# Altium schematic symbol library Resistor.SchLib: 22 symbols
Pins are listed as number, name and electrical type; pins without a type are passive.

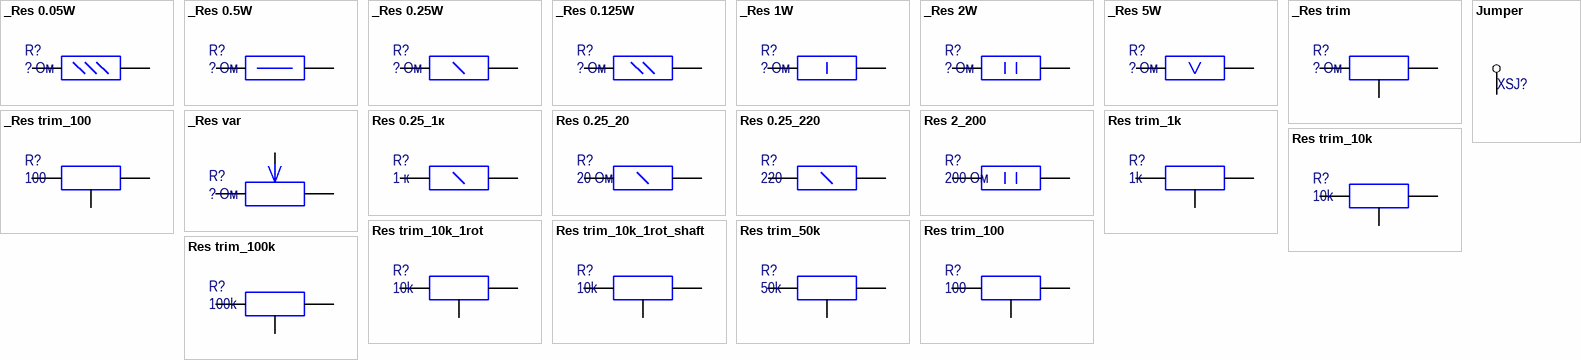
[diagram p0: symbols _Res 0.05W to Res trim_100k]

## _Res 0.05W
designator R?, comment ? Ом
Resistor with 0.05W max power; ManufacturerPartNumber: ?; ComponentLink1Description: Datasheet; Package: 0402; MF-0.05; ComponentLink2Description: Datasheet-local; ComponentLink2URL: *; Value: ? Ом
pins: 1, 2

## _Res 0.5W
designator R?, comment ? Ом
Resistor with 0.5W max power; ManufacturerPartNumber: ?; ComponentLink1Description: Datasheet; Package: 2010; MF-0.5; ComponentLink2Description: Datasheet-local; ComponentLink2URL: *; Value: ? Ом
pins: 1, 2

## _Res 0.25W
designator R?, comment ? Ом
Resistor with 0.25W max power; ManufacturerPartNumber: ?; ComponentLink1Description: Datasheet; Package: 1206; MF-0.25; ComponentLink2Description: Datasheet-local; ComponentLink2URL: *; Value: ? Ом
footprint RESC3216X07M (Chip Resistor, 2-Leads, Body 3,10x1,60mm, IPC Low Density)
pins: 1, 2

## _Res 0.125W
designator R?, comment ? Ом
Resistor with 0.125W max power; ManufacturerPartNumber: ?; ComponentLink1Description: Datasheet; Package: 0805; MF-0.125; ComponentLink2Description: Datasheet-local; ComponentLink2URL: *; Value: ? Ом
footprint RESC3216X07M (Chip Resistor, 2-Leads, Body 3,10x1,60mm, IPC Low Density)
pins: 1, 2

## _Res 1W
designator R?, comment ? Ом
Resistor with 1W max power; ManufacturerPartNumber: ?; ComponentLink1Description: Datasheet; Package: 2512; MF-1; ComponentLink2Description: Datasheet-local; ComponentLink2URL: *; Value: ? Ом
pins: 1, 2

## _Res 2W
designator R?, comment ? Ом
Resistor with 2W max power; ManufacturerPartNumber: ?; ComponentLink1Description: Datasheet; Package: MF-2; ComponentLink2Description: Datasheet-local; ComponentLink2URL: *; Value: ? Ом
pins: 1, 2

## _Res 5W
designator R?, comment ? Ом
Resistor with 5W max power; ManufacturerPartNumber: ?; ComponentLink1Description: Datasheet; ComponentLink2Description: Datasheet-local; ComponentLink2URL: *; Value: ? Ом
pins: 1, 2

## _Res trim
designator R?, comment ? Ом
Resistor trimming; ManufacturerPartNumber: ?; ComponentLink1Description: Datasheet; ComponentLink2Description: Datasheet-local; ComponentLink2URL: *; Value: ? Ом
pins: 1, 2, 3

## _Res trim_100
designator R?, comment 100
Resistor trimming; ManufacturerPartNumber: TSR 3006P-101; Manufacturer: Suntan Tecnology Company Limited; ComponentLink1Description: Datasheet; ComponentLink1URL: http://www.suntan.com.hk/pdf/Trimming-Potentiometers/TSR-3006.pdf; Price: 15,66; Package: not standard; ComponentLink2Description: Datasheet-local; ComponentLink2URL: *; Value: 100
pins: 1, 2, 3

## _Res var
designator R?, comment ? Ом
Variable resistor; ManufacturerPartNumber: ?; ComponentLink1Description: Datasheet; ComponentLink2Description: Datasheet-local; ComponentLink2URL: *; Value: ? Ом
pins: 1, 2, 3

## Jumper
designator XSJ?
footprint RESC6332-JUMPER (Chip Resistor, 2-Leads, Body 6,40x3,30mm, IPC Low Density)
pins: 1

## Res 0.25_1к
designator R?, comment 1 к
Resistor with 0.25W max power; ManufacturerPartNumber: МЛТ; Manufacturer: СССР; ComponentLink1Description: Datasheet; Price: 0,63; Package: штырьевой; Supplier: Промэлектроника; ComponentLink2Description: Datasheet-local; Value: 1 к
footprint МЛТ-0,25
pins: 1, 2

## Res 0.25_20
designator R?, comment 20 Ом
Resistor with 0.25W max power; ManufacturerPartNumber: RC1206FR-0720RL; Manufacturer: Yageo; ComponentLink1Description: Datasheet; ComponentLink1URL: http://www.yageo.com/documents/recent/PYu-RC1206_51_RoHS_L_6.pdf; Price: 0,52; Package: 1206; Supplier: Промэлектроника; ComponentLink2Description: Datasheet-local; ComponentLink2URL: *; Value: 20 Ом
footprint МЛТ-0,25
pins: 1, 2

## Res 0.25_220
designator R?, comment 220
Resistor with 0.25W max power; ManufacturerPartNumber: МЛТ; Manufacturer: СССР; ComponentLink1Description: Datasheet; Price: 0,63; Package: штырьевой; Supplier: Промэлектроника; ComponentLink2Description: Datasheet-local; Value: 220
footprint МЛТ-0,25
pins: 1, 2

## Res 2_200
designator R?, comment 200 Ом
200 Ohm resistor with 2W max power; ManufacturerPartNumber: ?; ComponentLink1Description: Datasheet; Package: MFR200; ComponentLink2Description: Datasheet-local; ComponentLink2URL: *; Value: 200 Ом
footprint MFR200 (2W resistor)
pins: 1, 2

## Res trim_1k
designator R?, comment 1k
Resistor trimming; ManufacturerPartNumber: T93YA102KT20; Manufacturer: VISHAY; ComponentLink1Description: Datasheet; ComponentLink1URL: http://www.vishay.com/docs/51026/t93.pdf; Price: 38.41; Package: not standard; ComponentLink2Description: Datasheet-local; ComponentLink2URL: *; Value: 1k
footprint T93YA (3/8" Square Multi-Turn Cermet Trimmer)
pins: 1, 2, 3

## Res trim_10k
designator R?, comment 10k
Resistor trimming; ManufacturerPartNumber: T93YA102KT20; Manufacturer: VISHAY; ComponentLink1Description: Datasheet; ComponentLink1URL: http://www.vishay.com/docs/51026/t93.pdf; Price: 38.41; Package: not standard; ComponentLink2Description: Datasheet-local; ComponentLink2URL: *; Value: 10k
footprint T93YA (3/8" Square Multi-Turn Cermet Trimmer)
pins: 1, 2, 3

## Res trim_10k_1rot
designator R?, comment 10k
Resistor trimming; ManufacturerPartNumber: 3314G-1-103E; Manufacturer: BOURNS; ComponentLink1Description: Datasheet; ComponentLink1URL: https://www.bourns.com/pdfs/3314.pdf; Price: 54.40; Package: not standard; ComponentLink2Description: Datasheet-local; ComponentLink2URL: *; Value: 10k
footprint 3314G-1 (Signle-rotation pot)
pins: 1, 2, 3

## Res trim_10k_1rot_shaft
designator R?, comment 10k
Resistor trimming; ManufacturerPartNumber: 3314G-1-103E; Manufacturer: ALPS; ComponentLink1Description: Datasheet; ComponentLink1URL: http://www.alps.com/prod/info/E/PDF/Potentiometer/InsulatedShaft/RK09K/RK09K.PDF; Package: not standard; ComponentLink2Description: Datasheet-local; ComponentLink2URL: *; Value: 10k; Price: 2
footprint RK09K111
pins: 1, 2, 3

## Res trim_50k
designator R?, comment 50k
Resistor trimming; ManufacturerPartNumber: T93YA503KT20; Manufacturer: VISHAY; ComponentLink1Description: Datasheet; ComponentLink1URL: http://www.vishay.com/docs/51026/t93.pdf; Price: 38.41; Package: not standard; ComponentLink2Description: Datasheet-local; ComponentLink2URL: *; Value: 50k
footprint T93YA (3/8" Square Multi-Turn Cermet Trimmer)
pins: 1, 2, 3

## Res trim_100
designator R?, comment 100
Resistor trimming; ManufacturerPartNumber: TSR 3362P-101; Manufacturer: Suntan Tecnology Company Limited; ComponentLink1Description: Datasheet; ComponentLink1URL: http://www.suntan.com.hk/pdf/Trimming-Potentiometers/TSR-3006.pdf; Price: 15,66; Package: not standard; ComponentLink2Description: Datasheet-local; ComponentLink2URL: *; Value: 100
footprint TSR-3362-SMD
footprint TSR-3362
pins: 1, 2, 3

## Res trim_100k
designator R?, comment 100k
Resistor trimming; ManufacturerPartNumber: T93YA104KT20; Manufacturer: VISHAY; ComponentLink1Description: Datasheet; ComponentLink1URL: http://www.vishay.com/docs/51026/t93.pdf; Price: 38.41; Package: not standard; ComponentLink2Description: Datasheet-local; ComponentLink2URL: *; Value: 100k
footprint T93YA (3/8" Square Multi-Turn Cermet Trimmer)
pins: 1, 2, 3